# Altium footprint library EMRT MAIN CONTROLLER.PcbLib: 35 footprints (part 1 of 3)
Each footprint in its own frame and in the unit in brackets; x right, y up, seen from the top. Pads: shape width x height; smd on the part's side, far side on the other; paste and mask are expansions set on the pad; w line width, h text height; cw(c..) or ccw(c..) is an arc to the next point about the centre after c.
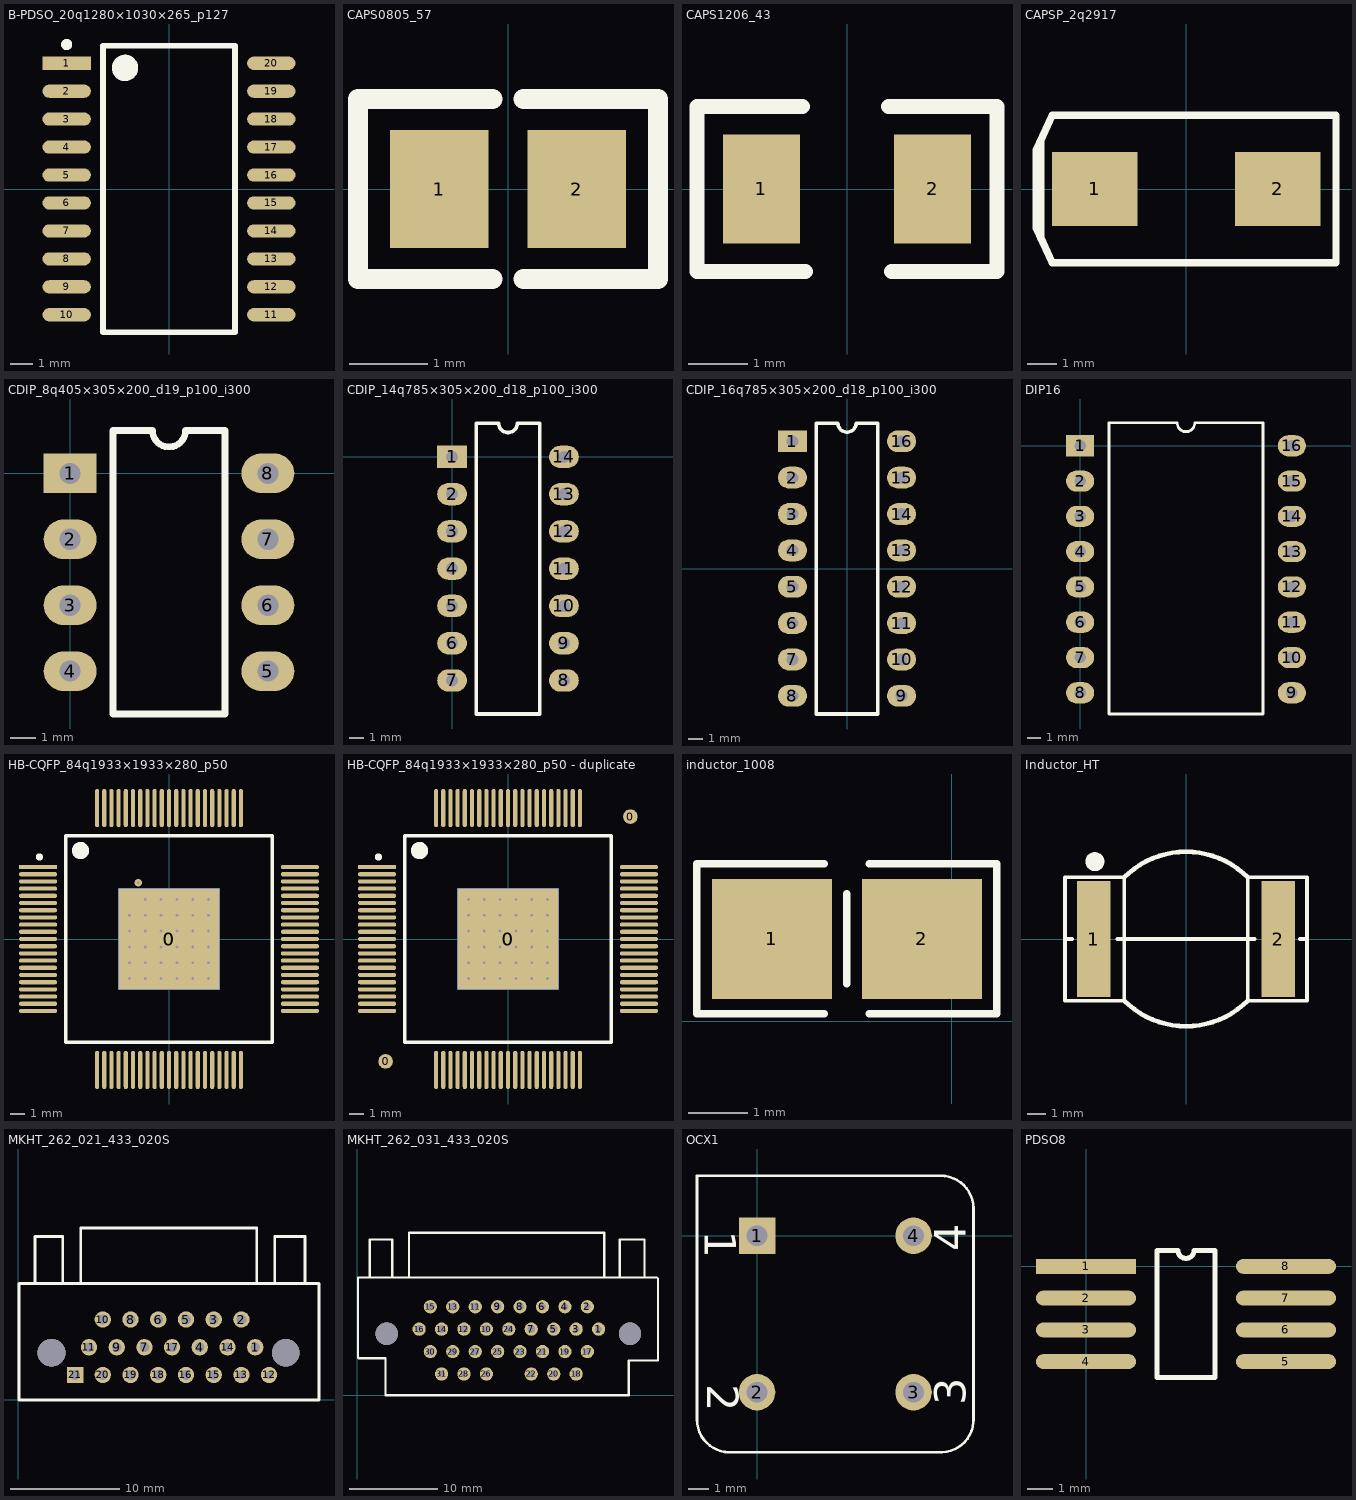
[diagram p0: the footprints below, top view; thin cyan lines are the x and y axes]

## B-PDSO_20q1280×1030×265_p127 [mm]
height 2.65
pads (20):
  rect 2.2x0.6 smd: 1(-4.65,5.715)
  oval 2.2x0.6 smd: 2(-4.65,4.445) 3(-4.65,3.175) 4(-4.65,1.905) 5(-4.65,0.635) 6(-4.65,-0.635) 7(-4.65,-1.905) 8(-4.65,-3.175) 9(-4.65,-4.445) 10(-4.65,-5.715) 11(4.65,-5.715) 12(4.65,-4.445) 13(4.65,-3.175) 14(4.65,-1.905) 15(4.65,-0.635) 16(4.65,0.635) 17(4.65,1.905) 18(4.65,3.175) 19(4.65,4.445) 20(4.65,5.715)
Top Overlay:
  circle w0.6: c-2,5.5 r0.3
  circle w0.254: c-4.65,6.565 r0.125
  lines w0.254: -3,-6.5 3,-6.5 3,6.5 -3,6.5 -3,-6.5
3D body: height 2.65, standoff 2.65, extent -2.491,4.953 -1.477,5.965
3D body: height 2.65, standoff 0.04, extent -3.81,-6.477 3.81,6.477
3D body: height 0.33, standoff 0, extent -5.334,5.461 -3.81,5.969
3D body: height 0.33, standoff 0, extent -5.334,4.191 -3.81,4.699
3D body: height 0.33, standoff 0, extent -5.334,2.921 -3.81,3.429
3D body: height 0.33, standoff 0, extent -5.334,1.651 -3.81,2.159
3D body: height 0.33, standoff 0, extent -5.334,0.381 -3.81,0.889
3D body: height 0.33, standoff 0, extent -5.334,-0.889 -3.81,-0.381
3D body: height 0.33, standoff 0, extent -5.334,-2.159 -3.81,-1.651
3D body: height 0.33, standoff 0, extent -5.334,-3.429 -3.81,-2.921
3D body: height 0.33, standoff 0, extent -5.334,-4.699 -3.81,-4.191
3D body: height 0.33, standoff 0, extent -5.334,-5.969 -3.81,-5.461
3D body: height 0.33, standoff 0, extent 3.81,-5.969 5.334,-5.461
3D body: height 0.33, standoff 0, extent 3.81,-4.699 5.334,-4.191
3D body: height 0.33, standoff 0, extent 3.81,-3.429 5.334,-2.921
3D body: height 0.33, standoff 0, extent 3.81,-2.159 5.334,-1.651
3D body: height 0.33, standoff 0, extent 3.81,-0.889 5.334,-0.381
3D body: height 0.33, standoff 0, extent 3.81,0.381 5.334,0.889
3D body: height 0.33, standoff 0, extent 3.81,1.651 5.334,2.159
3D body: height 0.33, standoff 0, extent 3.81,2.921 5.334,3.429
3D body: height 0.33, standoff 0, extent 3.81,4.191 5.334,4.699
3D body: height 0.33, standoff 0, extent 3.81,5.461 5.334,5.969

## CAPS0805_57 [mm]
pads (2):
  rect 1.25x1.5 smd: 1(-0.875,0) 2(0.875,0)
Top Overlay:
  lines w0.254: -0.2,-1.143 -1.905,-1.143 -1.905,1.143 -0.2,1.143 ; 0.2,-1.143 1.905,-1.143 1.905,1.143 0.2,1.143
3D body: height 0.89, standoff 0, extent -1.016,-0.635 1.016,0.635

## CAPS1206_43 [mm]
pads (2):
  rect 1.3x1.85 smd: 1(-1.45,0) 2(1.45,0)
Top Overlay:
  lines w0.254: -0.75,1.397 -2.54,1.397 -2.54,-1.397 -0.7,-1.397 ; 0.7,1.397 2.54,1.397 2.54,-1.397 0.75,-1.397
3D body: height 1.09, standoff 0, extent -1.6,-0.813 1.6,0.813

## CAPSP_2q2917 [mm]
pads (2):
  rect 2.9x2.5 smd: 1(-3.1,0) 2(3.1,0)
Top Overlay:
  lines w0.254: -4.94,1.649 -4.94,-1.675 -4.918,-1.698 ; -5.1,-1.3 -4.55,-2.5 5.08,-2.5 5.08,2.5 -4.55,2.5 -5.1,1.3 -5.1,-1.3
3D body: height 2.9, standoff 0, extent -3.65,-2.023 3.65,2.277

## CDIP_8q405×305×200_d19_p100_i300 [mil]
pads (8):
  rect 80x60 hole 32: 1(0,0)
  oval 80x60 hole 32: 2(0,-100) 3(0,-200) 4(0,-300) 5(300,-300) 6(300,-200) 7(300,-100) 8(300,0)
Top Overlay:
  lines w10: 65,-365 235,-365 235,65 175,65 cw(c150,65) 125,65 65,65 65,-365
3D body: height 200, standoff -137.8, extent 0,-359.96 309.84,69.96

## CDIP_14q785×305×200_d18_p100_i300 [mil]
pads (14):
  rect 80x60 hole 32: 1(0,0)
  oval 80x60 hole 32: 2(0,-100) 3(0,-200) 4(0,-300) 5(0,-400) 6(0,-500) 7(0,-600) 8(300,-600) 9(300,-500) 10(300,-400) 11(300,-300) 12(300,-200) 13(300,-100) 14(300,0)
Top Overlay:
  lines w10: 65,-690 65,90 125,90 ccw(c150,90) 175,90 235,90 235,-690 65,-690
3D body: height 219.13, standoff -124.31, extent -45.47,-692.5 355.49,92.5

## CDIP_16q785×305×200_d18_p100_i300 [mil]
height 20
pads (16):
  rect 80x60 hole 32: 1(-150,350)
  oval 80x60 hole 32: 2(-150,250) 3(-150,150) 4(-150,50) 5(-150,-50) 6(-150,-150) 7(-150,-250) 8(-150,-350) 9(150,-350) 10(150,-250) 11(150,-150) 12(150,-50) 13(150,50) 14(150,150) 15(150,250) 16(150,350)
Top Overlay:
  lines w10: -85,-400 -85,400 -25,400 ccw(c0,400) 25,400 85,400 85,-400 -85,-400
3D body: height 200, standoff 40, extent -135,-400.02 130,400.02
3D body: height 130, standoff 105, extent -150,320 -130,360
3D body: height 130, standoff 0, extent -175,320 -150,360
3D body: height 130, standoff 0, extent -175,220 -150,280
3D body: height 130, standoff 105, extent -150,220 -130,280
3D body: height 130, standoff 105, extent -150,120 -130,180
3D body: height 130, standoff 0, extent -175,120 -150,180
3D body: height 130, standoff 105, extent -150,20 -130,80
3D body: height 130, standoff 0, extent -175,20 -150,80
3D body: height 130, standoff 105, extent -150,-80 -130,-20
3D body: height 130, standoff 0, extent -175,-80 -150,-20
3D body: height 130, standoff 105, extent -150,-180 -130,-120
3D body: height 130, standoff 0, extent -175,-180 -150,-120
3D body: height 130, standoff 105, extent -150,-280 -130,-220
3D body: height 130, standoff 0, extent -175,-280 -150,-220
3D body: height 130, standoff 0, extent -175,-360 -150,-320
3D body: height 130, standoff 105, extent -150,-360 -130,-320
3D body: height 130, standoff 105, extent 125,320 145,360
3D body: height 130, standoff 0, extent 145,320 170,360
3D body: height 130, standoff 0, extent 145,220 170,280
3D body: height 130, standoff 105, extent 125,220 145,280
3D body: height 130, standoff 0, extent 145,120 170,180
3D body: height 130, standoff 105, extent 125,120 145,180
3D body: height 130, standoff 0, extent 145,20 170,80
3D body: height 130, standoff 105, extent 125,20 145,80
3D body: height 130, standoff 0, extent 145,-80 170,-20
3D body: height 130, standoff 105, extent 125,-80 145,-20
3D body: height 130, standoff 0, extent 145,-180 170,-120
3D body: height 130, standoff 105, extent 125,-180 145,-120
3D body: height 130, standoff 105, extent 125,-280 145,-220
3D body: height 130, standoff 0, extent 145,-280 170,-220
3D body: height 130, standoff 0, extent 145,-360 170,-320
3D body: height 130, standoff 105, extent 125,-360 145,-320

## DIP16 [mil]
height 20
pads (16):
  rect 80x60 hole 32: 1(0,0)
  oval 80x60 hole 32: 2(0,-100) 3(0,-200) 4(0,-300) 5(0,-400) 6(0,-500) 7(0,-600) 8(0,-700) 9(600,-700) 10(600,-600) 11(600,-500) 12(600,-400) 13(600,-300) 14(600,-200) 15(600,-100) 16(600,0)
Top Overlay:
  lines w7.87: 82.09,-760 517.91,-760 517.91,65 340,65 325,65 cw(c300,65) 275,65 260,65 82.09,65 82.09,-760

## HB-CQFP_84q1933×1933×280_p50 [mm] "SQFP, 84-Leads, Body 13.81x13.81mm, Pitch 0.50mm, Thermal Pad 7.04x7.04mm, IPC Medium Density"
height 2.8
pads (86):
  rect 7.04x7.04 smd mask+0: 0(0,0)
  rect 7.04x7.04 smd far side mask+0: 0(0,0)
  rect 2.65x0.29 smd paste+0 mask+0.051: 1(-9.1,5)
  oval 2.65x0.29 smd mask+0.051: 2(-9.1,4.5) 3(-9.1,4) 4(-9.1,3.5) 5(-9.1,3) 6(-9.1,2.5) 7(-9.1,2) 8(-9.1,1.5) 9(-9.1,1) 10(-9.1,0.5) 11(-9.1,0) 12(-9.1,-0.5) 13(-9.1,-1) 14(-9.1,-1.5) 15(-9.1,-2) 16(-9.1,-2.5) 17(-9.1,-3) 18(-9.1,-3.5) 19(-9.1,-4) 20(-9.1,-4.5) 21(-9.1,-5) 43(9.1,-5) 44(9.1,-4.5) 45(9.1,-4) 46(9.1,-3.5) 47(9.1,-3) 48(9.1,-2.5) 49(9.1,-2) 50(9.1,-1.5) 51(9.1,-1) 52(9.1,-0.5) 53(9.1,0) 54(9.1,0.5) 55(9.1,1) 56(9.1,1.5) 57(9.1,2) 58(9.1,2.5) 59(9.1,3) 60(9.1,3.5) 61(9.1,4) 62(9.1,4.5) 63(9.1,5)
  oval 0.29x2.65 smd mask+0.051: 22(-5,-9.1) 23(-4.5,-9.1) 24(-4,-9.1) 25(-3.5,-9.1) 26(-3,-9.1) 27(-2.5,-9.1) 28(-2,-9.1) 29(-1.5,-9.1) 30(-1,-9.1) 31(-0.5,-9.1) 32(0,-9.1) 33(0.5,-9.1) 34(1,-9.1) 35(1.5,-9.1) 36(2,-9.1) 37(2.5,-9.1) 38(3,-9.1) 39(3.5,-9.1) 40(4,-9.1) 41(4.5,-9.1) 42(5,-9.1) 64(5,9.1) 65(4.5,9.1) 66(4,9.1) 67(3.5,9.1) 68(3,9.1) 69(2.5,9.1) 70(2,9.1) 71(1.5,9.1) 72(1,9.1) 73(0.5,9.1) 74(0,9.1) 75(-0.5,9.1) 76(-1,9.1) 77(-1.5,9.1) 78(-2,9.1) 79(-2.5,9.1) 80(-3,9.1) 81(-3.5,9.1) 82(-4,9.1) 83(-4.5,9.1) 84(-5,9.1)
via -2.134,3.912 diameter 0.5 hole 0.2
via 2.75,-2.75 diameter 0.5 hole 0.2
via 1.65,-2.75 diameter 0.5 hole 0.2
via 0.55,-2.75 diameter 0.5 hole 0.2
via -0.55,-2.75 diameter 0.5 hole 0.2
via -1.65,-2.75 diameter 0.5 hole 0.2
via -2.75,-2.75 diameter 0.5 hole 0.2
via 2.75,-1.65 diameter 0.5 hole 0.2
via 1.65,-1.65 diameter 0.5 hole 0.2
via 0.55,-1.65 diameter 0.5 hole 0.2
via -0.55,-1.65 diameter 0.5 hole 0.2
via -1.65,-1.65 diameter 0.5 hole 0.2
via -2.75,-1.65 diameter 0.5 hole 0.2
via 2.75,-0.55 diameter 0.5 hole 0.2
via 1.65,-0.55 diameter 0.5 hole 0.2
via 0.55,-0.55 diameter 0.5 hole 0.2
via -0.55,-0.55 diameter 0.5 hole 0.2
via -1.65,-0.55 diameter 0.5 hole 0.2
via -2.75,-0.55 diameter 0.5 hole 0.2
via 2.75,0.55 diameter 0.5 hole 0.2
via 1.65,0.55 diameter 0.5 hole 0.2
via 0.55,0.55 diameter 0.5 hole 0.2
via -0.55,0.55 diameter 0.5 hole 0.2
via -1.65,0.55 diameter 0.5 hole 0.2
via -2.75,0.55 diameter 0.5 hole 0.2
via 2.75,1.65 diameter 0.5 hole 0.2
via 1.65,1.65 diameter 0.5 hole 0.2
via 0.55,1.65 diameter 0.5 hole 0.2
via -0.55,1.65 diameter 0.5 hole 0.2
via -1.65,1.65 diameter 0.5 hole 0.2
via -2.75,1.65 diameter 0.5 hole 0.2
via 2.75,2.75 diameter 0.5 hole 0.2
via 1.65,2.75 diameter 0.5 hole 0.2
via 0.55,2.75 diameter 0.5 hole 0.2
via -0.55,2.75 diameter 0.5 hole 0.2
via -1.65,2.75 diameter 0.5 hole 0.2
Top Overlay:
  circle w0.6: c-6.148,6.148 r0.3
  circle w0.25: c-9,5.7 r0.125
  lines w0.254: -7.175,-7.175 7.175,-7.175 7.175,7.175 -7.175,7.175 -7.175,-7.175
Mechanical 15:
  lines w0.1: -0.5,0 0.5,0 ; 0,-0.5 0,0.5

## HB-CQFP_84q1933×1933×280_p50 - duplicate [mm] "SQFP, 84-Leads, Body 13.81x13.81mm, Pitch 0.50mm, Thermal Pad 7.04x7.04mm, IPC Medium Density"
height 2.8
pads (88):
  round 1.016 smd mask+0.762: 0(-8.509,-8.509) 0(8.509,8.509)
  rect 7.04x7.04 smd mask+0: 0(0,0)
  rect 7.04x7.04 smd far side mask+0: 0(0,0)
  rect 2.65x0.29 smd paste+0 mask+0.051: 1(-9.1,5)
  oval 2.65x0.29 smd mask+0.051: 2(-9.1,4.5) 3(-9.1,4) 4(-9.1,3.5) 5(-9.1,3) 6(-9.1,2.5) 7(-9.1,2) 8(-9.1,1.5) 9(-9.1,1) 10(-9.1,0.5) 11(-9.1,0) 12(-9.1,-0.5) 13(-9.1,-1) 14(-9.1,-1.5) 15(-9.1,-2) 16(-9.1,-2.5) 17(-9.1,-3) 18(-9.1,-3.5) 19(-9.1,-4) 20(-9.1,-4.5) 21(-9.1,-5) 43(9.1,-5) 44(9.1,-4.5) 45(9.1,-4) 46(9.1,-3.5) 47(9.1,-3) 48(9.1,-2.5) 49(9.1,-2) 50(9.1,-1.5) 51(9.1,-1) 52(9.1,-0.5) 53(9.1,0) 54(9.1,0.5) 55(9.1,1) 56(9.1,1.5) 57(9.1,2) 58(9.1,2.5) 59(9.1,3) 60(9.1,3.5) 61(9.1,4) 62(9.1,4.5) 63(9.1,5)
  oval 0.29x2.65 smd mask+0.051: 22(-5,-9.1) 23(-4.5,-9.1) 24(-4,-9.1) 25(-3.5,-9.1) 26(-3,-9.1) 27(-2.5,-9.1) 28(-2,-9.1) 29(-1.5,-9.1) 30(-1,-9.1) 31(-0.5,-9.1) 32(0,-9.1) 33(0.5,-9.1) 34(1,-9.1) 35(1.5,-9.1) 36(2,-9.1) 37(2.5,-9.1) 38(3,-9.1) 39(3.5,-9.1) 40(4,-9.1) 41(4.5,-9.1) 42(5,-9.1) 64(5,9.1) 65(4.5,9.1) 66(4,9.1) 67(3.5,9.1) 68(3,9.1) 69(2.5,9.1) 70(2,9.1) 71(1.5,9.1) 72(1,9.1) 73(0.5,9.1) 74(0,9.1) 75(-0.5,9.1) 76(-1,9.1) 77(-1.5,9.1) 78(-2,9.1) 79(-2.5,9.1) 80(-3,9.1) 81(-3.5,9.1) 82(-4,9.1) 83(-4.5,9.1) 84(-5,9.1)
via 2.75,-2.75 diameter 0.5 hole 0.2
via 1.65,-2.75 diameter 0.5 hole 0.2
via 0.55,-2.75 diameter 0.5 hole 0.2
via -0.55,-2.75 diameter 0.5 hole 0.2
via -1.65,-2.75 diameter 0.5 hole 0.2
via -2.75,-2.75 diameter 0.5 hole 0.2
via 2.75,-1.65 diameter 0.5 hole 0.2
via 1.65,-1.65 diameter 0.5 hole 0.2
via 0.55,-1.65 diameter 0.5 hole 0.2
via -0.55,-1.65 diameter 0.5 hole 0.2
via -1.65,-1.65 diameter 0.5 hole 0.2
via -2.75,-1.65 diameter 0.5 hole 0.2
via 2.75,-0.55 diameter 0.5 hole 0.2
via 1.65,-0.55 diameter 0.5 hole 0.2
via 0.55,-0.55 diameter 0.5 hole 0.2
via -0.55,-0.55 diameter 0.5 hole 0.2
via -1.65,-0.55 diameter 0.5 hole 0.2
via -2.75,-0.55 diameter 0.5 hole 0.2
via 2.75,0.55 diameter 0.5 hole 0.2
via 1.65,0.55 diameter 0.5 hole 0.2
via 0.55,0.55 diameter 0.5 hole 0.2
via -0.55,0.55 diameter 0.5 hole 0.2
via -1.65,0.55 diameter 0.5 hole 0.2
via -2.75,0.55 diameter 0.5 hole 0.2
via 2.75,1.65 diameter 0.5 hole 0.2
via 1.65,1.65 diameter 0.5 hole 0.2
via 0.55,1.65 diameter 0.5 hole 0.2
via -0.55,1.65 diameter 0.5 hole 0.2
via -1.65,1.65 diameter 0.5 hole 0.2
via -2.75,1.65 diameter 0.5 hole 0.2
via 2.75,2.75 diameter 0.5 hole 0.2
via 1.65,2.75 diameter 0.5 hole 0.2
via 0.55,2.75 diameter 0.5 hole 0.2
via -0.55,2.75 diameter 0.5 hole 0.2
via -1.65,2.75 diameter 0.5 hole 0.2
via -2.75,2.75 diameter 0.5 hole 0.2
Top Overlay:
  circle w0.6: c-6.148,6.148 r0.3
  circle w0.25: c-9,5.7 r0.125
  lines w0.254: -7.175,-7.175 7.175,-7.175 7.175,7.175 -7.175,7.175 -7.175,-7.175
Mechanical 15:
  lines w0.1: -0.5,0 0.5,0 ; 0,-0.5 0,0.5

## inductor_1008 [mil]
height 20
pads (2):
  rect 80x80 smd: 1(-120,55) 2(-20,55)
Top Overlay:
  lines w5: -85,5 -170,5 -170,105 -85,105 ; -70,25 -70,85 ; -55,5 30,5 30,105 -55,105

## Inductor_HT [mm]
height 4
pads (2):
  rect 1.8x6.2 smd: 1(-4.928,0) 2(4.928,0)
Top Overlay:
  circle w0.508: c-4.877,4.14 r0.254
  lines w0.203: -6.477,0 -6.096,0 ; -3.683,0 3.683,0 ; 6.096,0 6.477,0 ; -6.477,-3.3 -3.302,-3.3 -3.302,3.3 -6.477,3.3 -6.477,-3.3 ; 3.302,-3.3 3.302,3.3 6.477,3.3 6.477,-3.3 3.302,-3.3
  lines w0.254: -3.302,-3.3 ccw(c0,0) 3.302,-3.3 ; -3.302,3.3 cw(c0,0) 3.302,3.3

## MKHT_262_021_433_020S [mm]
pads (21):
  round 1.5 hole 0.9: 1(21.717,4.826) 2(20.447,7.366) 3(17.907,7.366) 4(16.637,4.826) 5(15.367,7.366) 6(12.827,7.366) 7(11.557,4.826) 8(10.287,7.366) 9(9.017,4.826) 10(7.747,7.366) 11(6.477,4.826) 14(19.177,4.826) 15(17.907,2.286) 16(15.367,2.286) 17(14.097,4.826) 18(12.827,2.286) 19(10.287,2.286) 20(7.747,2.286)
  round 1.5 hole 0.762: 12(22.987,2.286) 13(20.447,2.286)
  rect 1.5x1.5 hole 0.9: 21(5.207,2.286)
via 24.512,4.316 diameter 2.54 hole 2.54
via 3.048,4.316 diameter 2.54 hole 2.54
Top Overlay:
  lines w0.254: 1.524,10.666 1.524,14.986 4.064,14.986 4.064,10.666 ; 5.715,10.718 5.715,15.748 ; 5.842,15.748 21.844,15.748 21.844,10.718 ; 20.828,10.666 23.368,10.666 ; 23.495,10.666 23.495,14.986 ; 23.622,14.986 26.162,14.986 ; 26.289,10.668 26.289,14.988 ; 27.559,0 27.559,10.67 ; 27.56,-0.004 0.063,-0.004 0.063,10.666 27.56,10.666

## MKHT_262_031_433_020S [mm]
pads (31):
  round 1.5 hole 0.762: 1(27.305,7.493) 2(26.035,10.033) 3(24.765,7.493) 4(23.495,10.033) 6(20.955,10.033) 17(26.035,4.953) 18(24.765,2.413) 19(23.495,4.953) 20(22.225,2.413) 21(20.955,4.953) 22(19.685,2.413) 26(14.605,2.413) 28(12.065,2.413) 31(9.525,2.413)
  round 1.5 hole 0.9: 5(22.225,7.493) 7(19.685,7.493) 8(18.415,10.033) 9(15.875,10.033) 10(14.605,7.493) 11(13.335,10.033) 12(12.065,7.493) 13(10.795,10.033) 14(9.525,7.493) 15(8.255,10.033) 16(6.985,7.493) 23(18.415,4.953) 24(17.145,7.493) 25(15.875,4.953) 27(13.335,4.953) 29(10.795,4.953) 30(8.255,4.953)
via 3.302,6.983 diameter 2.54 hole 2.54
via 30.862,6.983 diameter 2.54 hole 2.54
Top Overlay:
  lines w0.254: 1.397,13.333 1.397,17.653 3.937,17.653 3.937,13.333 ; 3.175,0 3.175,4.191 0.127,4.191 0.063,4.255 0.063,13.333 33.91,13.333 ; 3.2,0 30.735,0 ; 5.842,13.385 5.842,18.415 27.94,18.415 27.94,13.385 ; 20.955,13.333 23.495,13.333 ; 29.718,13.333 29.718,17.653 ; 29.845,17.653 32.385,17.653 ; 30.734,0 30.734,3.937 34.036,3.937 34.036,13.208 ; 32.512,13.335 32.512,17.655

## OCX1 [mil]
pads (4):
  rect 70x70 hole 40: 1(0,0)
  round 70 hole 40: 2(0,-300) 3(300,-300) 4(300,0)
Top Overlay:
  lines w5: -115.05,-352.5 ccw(c-52.5,-352.5) -52.5,-415.05 ; -115,-350 -115,115 351.26,115 cw(c352.13,52.13) 415,53 415,-355 ; -55,-415 355,-415 ccw(c352.5,-352.5) 415,-350
  text "4" at 400,-30 h60
  text "3" at 400,-325 h60
  text "2" at -95,-285 h60
  text "1" at -100,10 h60

## PDSO8 [mm]
height 0.508
pads (8):
  rect 4x0.6 smd: 1(0,0)
  oval 4x0.6 smd: 2(0,-1.27) 3(0,-2.54) 4(0,-3.81) 5(8,-3.81) 6(8,-2.54) 7(8,-1.27) 8(8,0)
Top Overlay:
  lines w0.2: 2.835,-4.445 2.835,0.635 3.682,0.635 ccw(c4,0.635) 4.317,0.635 5.165,0.635 5.165,-4.445 2.835,-4.445